# EAGLE library part 74*2G241? (library 74xx)
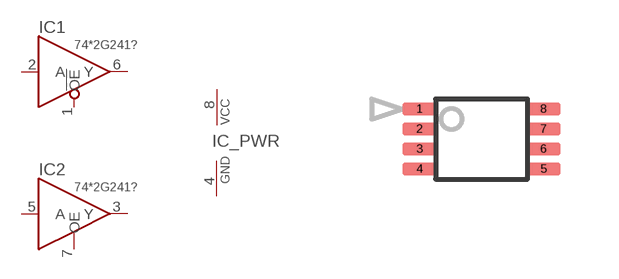
[diagram p2: symbol with the pads of VSSOP-8; footprint VSSOP-8]

Designator prefix IC; gates 1=74X241!OE 2=74X241OE _PWR=PWRN

## 74LVC2G241DCU (MF: Texas Instruments; MPN: SN74LVC2G241DCU)  [VSSOP-8]
1  1:!OE
2  1:A
3  2:Y
4  _PWR:GND  pwr
5  2:A
6  1:Y
7  2:OE
8  _PWR:VCC  pwr

## Footprint VSSOP-8 (pad centres in mm)
smd 0.85 x 0.3: 1 -1.55,0.75; 2 -1.55,0.25; 3 -1.55,-0.25; 4 -1.55,-0.75; 5 1.55,-0.75; 6 1.55,-0.25; 7 1.55,0.25; 8 1.55,0.75